# Altium schematic symbol library QUTMS_IMULibrary.SchLib: 1 symbol
Pins are listed as number, name and electrical type; pins without a type are passive.

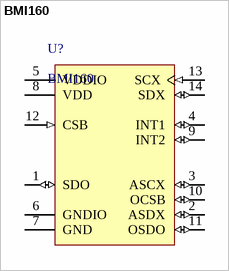
[diagram p0: symbol BMI160]

## BMI160
designator U?
Small, low Power Inertial Measurement Unit, 1.2 to 3.6 V, -40 to 85 degC, 14-Pin LGA, Halogen-Free, Tape and Reel; Manufacturer: Bosch; Datasheet URL: https://ae-bst.resource.bosch.com/media/_tech/media/datasheets/BST-BMI160-DS000-07.pdf; Package Description: 14-Pullback Quad Flat No-Lead, Body 3 x 2.5 mm, Pitch 0.5 mm; Lead Free: LeadFree; Datasheet Version: Rev. 0.8, 02/2015; Mounting Technology: SurfaceMount; Manufacturer URL: https://www.bosch.com/; Package Reference: BMI160; RoHSCompliant: false
footprint BOSC-BMI160_V (PQFN, 14-Leads, Body 3x2.5mm, Pitch 0.5mm)
pins: 1 SDO (io) "serial data output in SPI address select in I2C mode", 2 ASDX (io) "magnetormeter interface", 3 ASCX (io) "magnetormeter interface", 4 INT1 (io) "interrupt pin 1", 5 VDDIO (power) "digital I/O supply voltage (1.2 … 3.6 v)", 6 GNDIO (power) "ground for I/O", 7 GND (power) "ground for digital & analog", 8 VDD (power) "power supply analog & digital domain (1.71 … 3.6 v)", 9 INT2 (io) "interrupt pin 2", 10 OCSB (io) "OIS interface", 11 OSDO (io) "OIS interface", 12 CSB (in) "chip select for SPI mode/protocol selection pin", 13 SCX (in) "sck for SPI serial clock/SCL for I2C serial clocl", 14 SDX (io) "SDA serial data I/O in I2C/MOSI serial data input in SPI 4W/SISO serial data I/O in SPI 3W"